# EAGLE library part TCAN33X (library Bauteile)
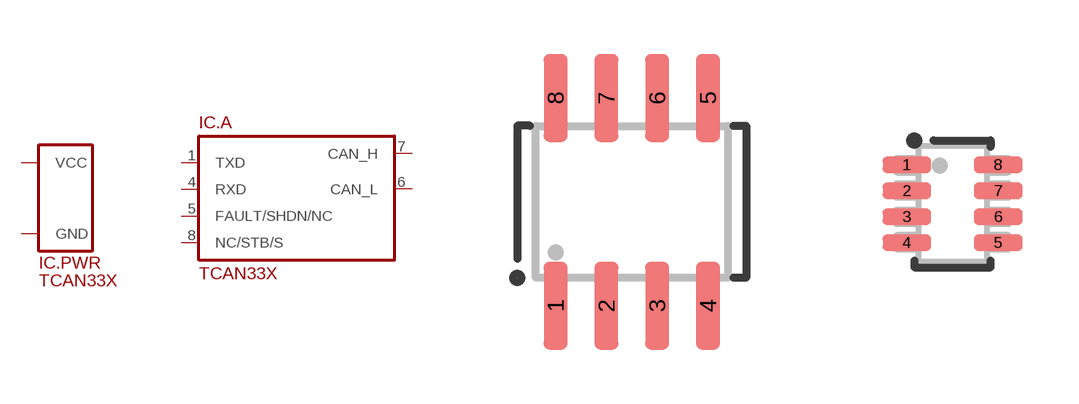
[diagram p127: symbol with the pads of SO8; footprints SO8, SOT23-8]

Designator prefix IC; gates .PWR=SUPPLY_VCC/GND .A=TCAN33X

## TCAN33X(SO8)  [SO8]
1  .A:TXD
2  .PWR:GND
3  .PWR:VCC
4  .A:RXD
5  .A:FAULT/SHDN/NC
6  .A:CAN_L
7  .A:CAN_H
8  .A:NC/STB/S

## TCAN33X(SOT23-8)  [SOT23-8]
Pads as for SO8

## Footprint SO8 (pad centres in mm)
smd 0.6 x 2.2: 1 -1.905,-2.6; 2 -0.635,-2.6; 3 0.635,-2.6; 4 1.905,-2.6; 5 1.905,2.6; 6 0.635,2.6; 7 -0.635,2.6; 8 -1.905,2.6

## Footprint SOT23-8 (pad centres in mm)
smd 1.219 x 0.406: 1 -1.143,0.975; 2 -1.143,0.325; 3 -1.143,-0.325; 4 -1.143,-0.975; 5 1.143,-0.975; 6 1.143,-0.325; 7 1.143,0.325; 8 1.143,0.975